# Altium schematic symbol library Components - 19.10.22 - 13.49.SchLib: 1 symbol
Pins are listed as number, name and electrical type; pins without a type are passive.

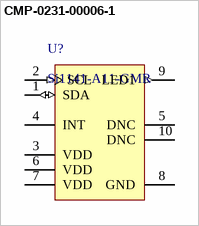
[diagram p0: symbol CMP-0231-00006-1]

## CMP-0231-00006-1
designator U?, comment Si1141-A11-GMR
Proximity / Ambient Light Sensor IC with I2C Interface, 1 LED Driver, -40 to 85 degC, 10-pin QFN, Tape and Reel; Manufacturer: Silicon Labs; Sub-Family: Optical Sensors; Ambient Light Sensor: TRUE; Output Type: I2C; PackageReference: QFN-10; ComponentLink2Description: Datasheet; ComponentLink3URL: http://www.silabs.com/Support%20Documents/TechnicalDocs/Si114x.pdf; PartNumber: Si1141-A11-GMR; Mounting Technology: Surface Mount; Code_IPC: J-STD-020; ComponentLink2URL: http://www.silabs.com/Support%20Documents/TechnicalDocs/Si114x.pdf; PackageDescription: 10-Pin Quad-Flat No-Leads Package, Body 2 x 2 mm, Pitch 0.5 mm; DatasheetVersion: Rev. 1.3; Packing: Tape and Reel; ComponentLink3Description: Package Specification; ComponentLink1URL: http://www.silabs.com/; Code_JEDEC: MO-220; ComponentLink1Description: Manufacturer URL
footprint SLAB-QFN-10_V (QFN, 10-Leads, Body 2x2mm, Pitch 0.5mm)
pins: 1 SDA (io) "I2C Data.", 2 SCL (in) "I2C Clock.", 3 VDD (power) "Power Supply. Voltage source.", 4 INT (oc) "Interrupt Output. Open-drain interrupt output pin. Must be at logic level high during power-up sequence to enable low power operation.", 5 DNC "Do Not Connect. This pin is electrically connected to an internal Si1141 node. It should remain unconnected.", 6 VDD (power) "Power Supply. Voltage source.", 7 VDD (power) "Power Supply. Voltage source.", 8 GND (power) "Ground. Reference voltage.", 9 LED1 (out) "LED1 Output. Programmable constant current sink normally connected to an infrared LED cathode.", 10 DNC "Do Not Connect. This pin is electrically connected to an internal Si1141 node. It should remain unconnected."